# EAGLE library part REF50* (library texas)
VOLTAGE REFERENCE Low-Noise, Very Low Drift, Precision
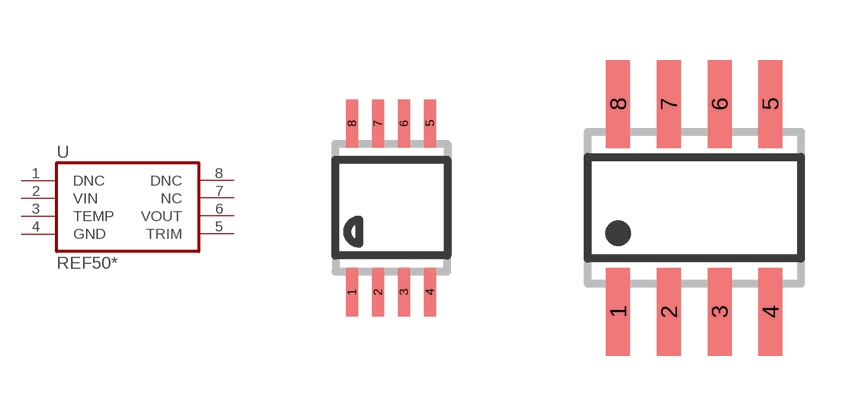
[diagram p75: symbol with the pads of MSOP08; footprints MSOP08, SO08]

Designator prefix U

## REF50DGK (VOLTAGE: 5.0V), REF5010DGK (VOLTAGE: 10.0V), REF5020DGK (VOLTAGE: 2.048V), REF5025DGK (VOLTAGE: 2.5V), REF5030DGK (VOLTAGE: 3.0V), REF5040DGK (VOLTAGE: 4.096V), REF5045DGK (VOLTAGE: 4.5V), REF5050DGK (VOLTAGE: 5.0V)  [MSOP08]
1  DNC  nc
2  VIN  in
3  TEMP  out
4  GND  pwr
5  TRIM  pas
6  VOUT  pas
7  NC  nc
8  DNC  nc

## REF50D (VOLTAGE: 5.0V), REF5010D (VOLTAGE: 10.0V), REF5020D (VOLTAGE: 2.048V), REF5025D (VOLTAGE: 2.5V), REF5030D (VOLTAGE: 3.0V), REF5040D (VOLTAGE: 4.096V), REF5045D (VOLTAGE: 4.5V), REF5050D (VOLTAGE: 5.0V)  [SO08]
Pads as for MSOP08

## Footprint MSOP08 (pad centres in mm)
Mini Small Outline Package
smd 0.3 x 1.2: 1 -0.976,-2.113; 2 -0.326,-2.113; 3 0.324,-2.113; 4 0.974,-2.113; 5 0.974,2.112; 6 0.324,2.112; 7 -0.326,2.112; 8 -0.976,2.112

## Footprint SO08 (pad centres in mm)
SMALL OUTLINE INTEGRATED CIRCUIT body 3.9 mm/JEDEC MS-012AA
smd 0.6 x 2.2: 1 -1.905,-2.6; 2 -0.635,-2.6; 3 0.635,-2.6; 4 1.905,-2.6; 5 1.905,2.6; 6 0.635,2.6; 7 -0.635,2.6; 8 -1.905,2.6